# EAGLE library part SSA-LXB525 (library kwoo)
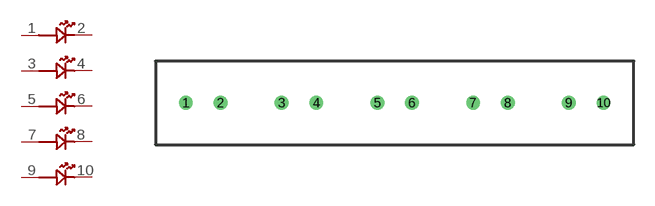
[diagram p18: symbol with the pads of SSA-LBC525; footprint SSA-LBC525]

Designator prefix D; gates G$1=LED G$2=LED G$3=LED G$4=LED G$5=LED

## SSA-LXB525  [SSA-LBC525]
1  G$1:LED+
2  G$1:LED-
3  G$2:LED+
4  G$2:LED-
5  G$3:LED+
6  G$3:LED-
7  G$4:LED+
8  G$4:LED-
9  G$5:LED+
10  G$5:LED-

## Footprint SSA-LBC525 (pad centres in mm)
drill 0.5 round: 1 -15.27,0; 2 -12.73,0; 3 -8.27,0; 4 -5.73,0; 5 -1.27,0; 6 1.27,0; 7 5.73,0; 8 8.27,0; 9 12.73,0; 10 15.27,0